# Altium schematic symbol library 2019-04-02_13-31-29.SchLib: 2 symbols
Pins are listed as number, name and electrical type; pins without a type are passive.

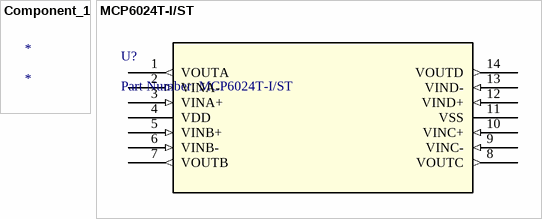
[diagram p0: symbols Component_1 to MCP6024T-I/ST]

## Component_1
designator *

## MCP6024T-I/ST
designator U?, comment Part Number: MCP6024T-I/ST
No Description Available; Vendor: Microchip; Built_By: EMA_UL_Team; Manufacturer_Part_Number: MCP6024T-I/ST; Copyright: Copyright (C) 2018 Accelerated Designs. All rights reserved; RefDes: RefDes; Type: DEV; Value: Value
footprint TSSOP14_MC
pins: 1 VOUTA (out), 2 VINA- (in), 3 VINA+ (in), 4 VDD, 5 VINB+ (in), 6 VINB- (in), 7 VOUTB (out), 8 VOUTC (out), 9 VINC- (in), 10 VINC+ (in), 11 VSS, 12 VIND+ (in), 13 VIND- (in), 14 VOUTD (out)